# Altium integrated library Micron Memory Parallel NOR Flash.IntLib: 720 symbols (part 46 of 216)
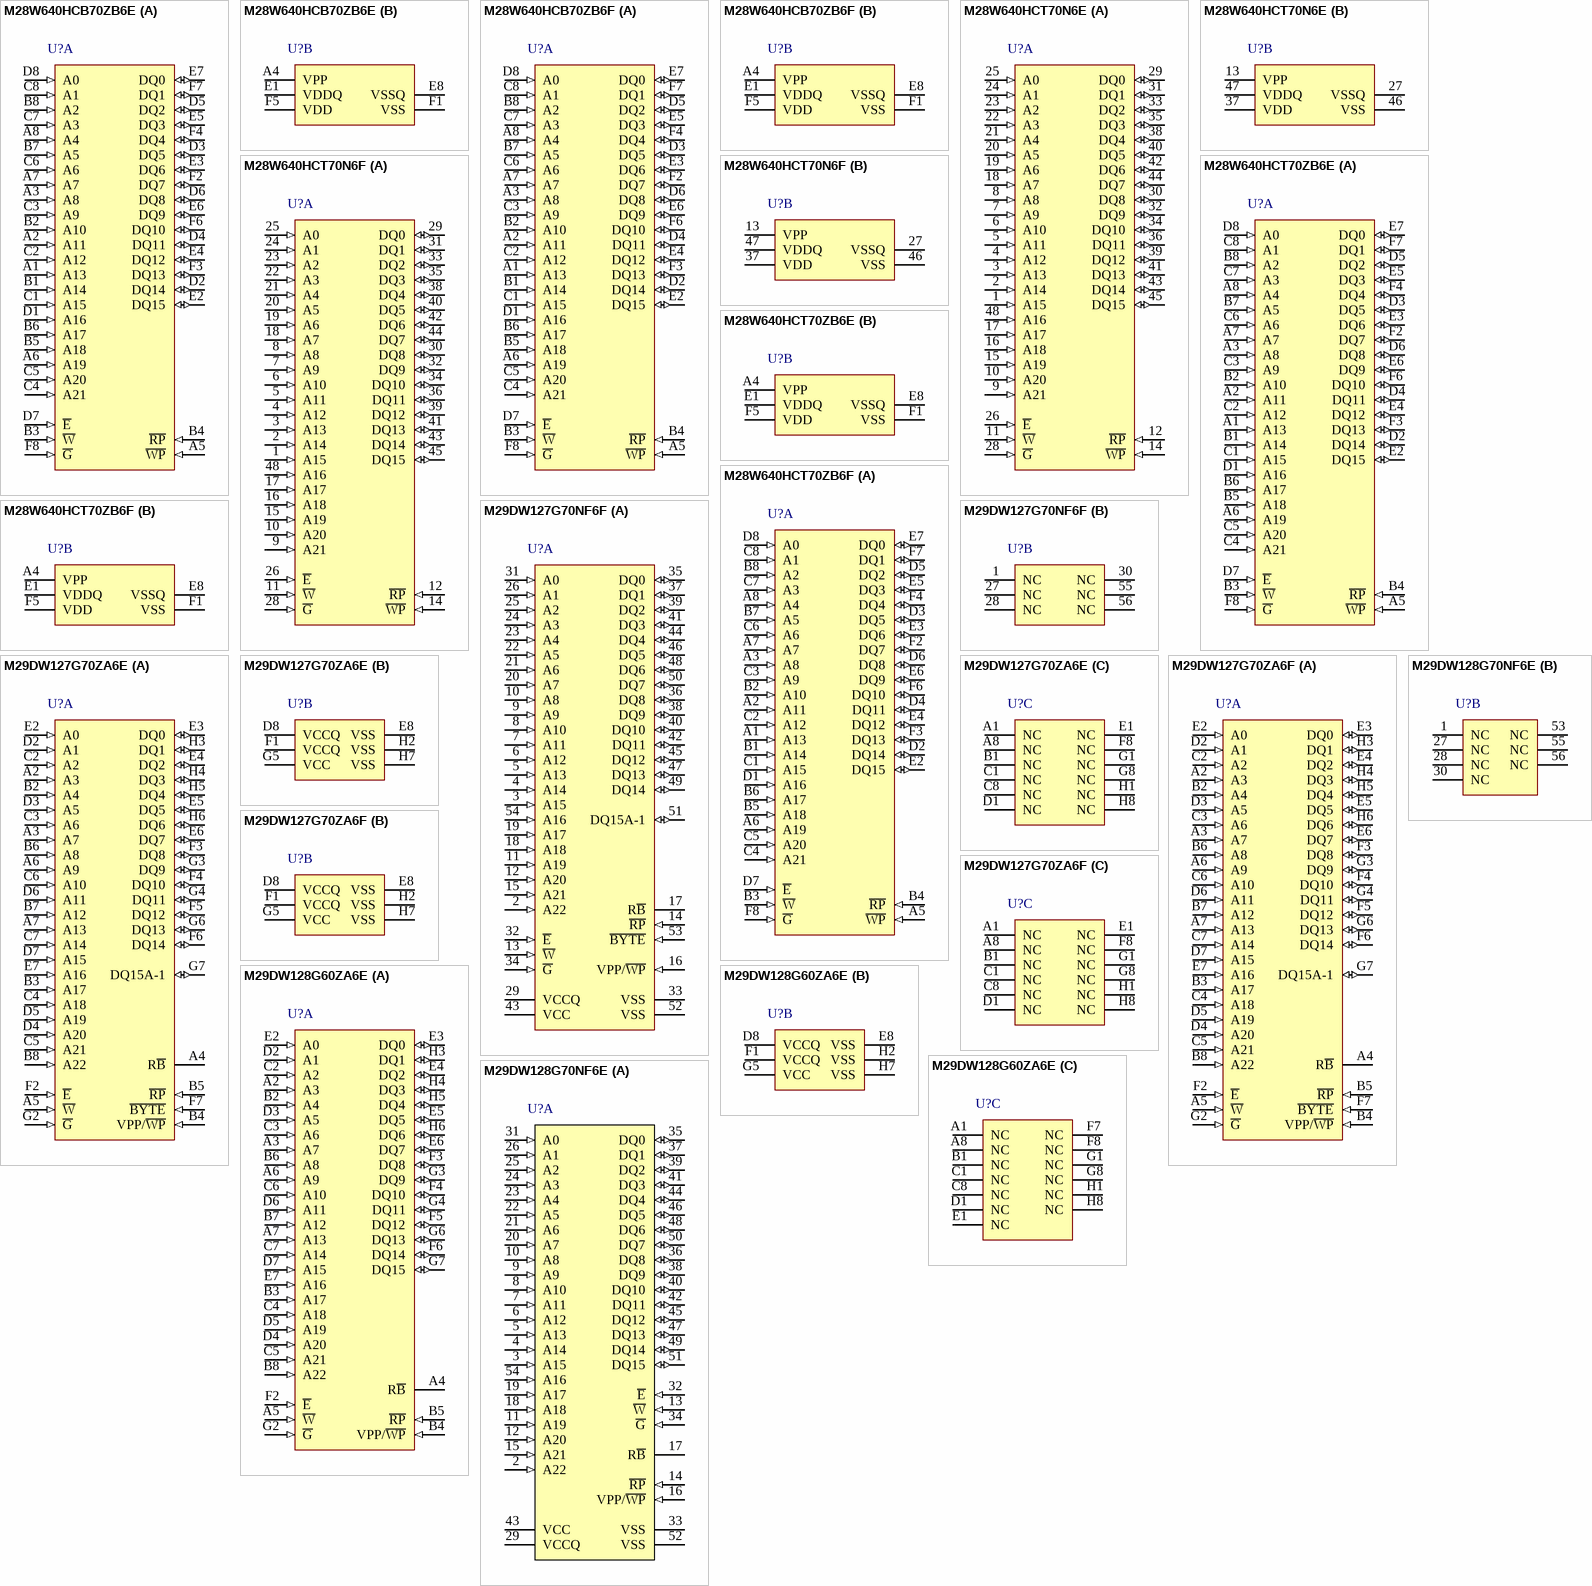
[diagram p100: symbols M28W640HCB70ZB6E to M29DW128G70NF6E]

## M28W640HCT70ZB6E
designator U?
64 Mb (x16) Parallel NOR Flash Memory, 70 ns, 2.7 to 3.6 V, 48-ball TFBGA (ZB), Tray; Part Family: M28W; Manufacturer: Micron; PartNumber: M28W640HCT70ZB6E; Density: 64Mb; Op Temp: -40C to +85C; Speed: 70ns; Voltage: 2.7V-3.6V; DatasheetVersion: Rev. 3; PackageVersion: Rev 4; PackageReference: MICT-ZB-48; PackageDescription: 48-Ball VFBGA, 10.5 X 6.39 mm, Pitch 0.75 mm; RoHS: Yes; Width: x16; Mounting Technology: Surface Mount; ComponentLink1Description: Manufacturer URL; ComponentLink1URL: http://www.micron.com/; ComponentLink2Description: Datasheet; ComponentLink2URL: http://www.micron.com/~/media/Documents/Products/Data%20Sheet/NOR%20Flash/Parallel/M28W/M28W640HC.pdf; ComponentLink3Description: Package Specification; ComponentLink3URL: http://www.micron.com/~/media/Documents/Products/Data%20Sheet/NOR%20Flash/Parallel/M28W/M28W160EC.pdf
footprint MICT-ZB-48 (BGA, 48-Balls, Body 10.5x6.39mm, Pitch 0.75mm)
part A pins: A1 A13 (in) "Address input:The Address Input select the cells in the memory array to access during Bus Read operations. During Bus Write operations they control the commands sent to the Command Interface of the internal state machine.", A2 A11 (in) "Address input:The Address Input select the cells in the memory array to access during Bus Read operations. During Bus Write operations they control the commands sent to the Command Interface of the internal state machine.", A3 A8 (in) "Address input:The Address Input select the cells in the memory array to access during Bus Read operations. During Bus Write operations they control the commands sent to the Command Interface of the internal state machine.", A5 ~{WP} (in) "Write Protect:Write Protect is an input that gives an additional hardware protection for each block. When Write Protect is at VIL, the Lock-Down is enabled and the protection status of the block cannot be changed. When Write (See Datasheet)", A6 A19 (in) "Address input:The Address Input select the cells in the memory array to access during Bus Read operations. During Bus Write operations they control the commands sent to the Command Interface of the internal state machine.", A7 (in) "Address input:The Address Input select the cells in the memory array to access during Bus Read operations. During Bus Write operations they control the commands sent to the Command Interface of the internal state machine.", A8 A4 (in) "Address input:The Address Input select the cells in the memory array to access during Bus Read operations. During Bus Write operations they control the commands sent to the Command Interface of the internal state machine.", B1 A14 (in) "Address input:The Address Input select the cells in the memory array to access during Bus Read operations. During Bus Write operations they control the commands sent to the Command Interface of the internal state machine.", B2 A10 (in) "Address input:The Address Input select the cells in the memory array to access during Bus Read operations. During Bus Write operations they control the commands sent to the Command Interface of the internal state machine.", B3 ~{W} (in) "Write Enable:The Write Enable controls the Bus Write operation of the memory’s Command Interface. The data and address inputs are latched on the rising edge of Chip Enable, E\, or Write Enable, W\, whichever occurs first.", B4 ~{RP} (in) "Reset:The Reset input provides a hardware reset of the memory. When Reset is at VIL, the memory is in reset mode: the outputs are high impedance and the current consumption is minimized. After Reset all blocks are in the (See Datasheet)", B5 A18 (in) "Address input:The Address Input select the cells in the memory array to access during Bus Read operations. During Bus Write operations they control the commands sent to the Command Interface of the internal state machine.", B6 A17 (in) "Address input:The Address Input select the cells in the memory array to access during Bus Read operations. During Bus Write operations they control the commands sent to the Command Interface of the internal state machine.", B7 A5 (in) "Address input:The Address Input select the cells in the memory array to access during Bus Read operations. During Bus Write operations they control the commands sent to the Command Interface of the internal state machine.", B8 A2 (in) "Address input:The Address Input select the cells in the memory array to access during Bus Read operations. During Bus Write operations they control the commands sent to the Command Interface of the internal state machine.", C1 A15 (in) "Address input:The Address Input select the cells in the memory array to access during Bus Read operations. During Bus Write operations they control the commands sent to the Command Interface of the internal state machine.", C2 A12 (in) "Address input:The Address Input select the cells in the memory array to access during Bus Read operations. During Bus Write operations they control the commands sent to the Command Interface of the internal state machine.", C3 A9 (in) "Address input:The Address Input select the cells in the memory array to access during Bus Read operations. During Bus Write operations they control the commands sent to the Command Interface of the internal state machine.", C4 A21 (in) "Address input:The Address Input select the cells in the memory array to access during Bus Read operations. During Bus Write operations they control the commands sent to the Command Interface of the internal state machine.", C5 A20 (in) "Address input:The Address Input select the cells in the memory array to access during Bus Read operations. During Bus Write operations they control the commands sent to the Command Interface of the internal state machine.", C6 A6 (in) "Address input:The Address Input select the cells in the memory array to access during Bus Read operations. During Bus Write operations they control the commands sent to the Command Interface of the internal state machine.", C7 A3 (in) "Address input:The Address Input select the cells in the memory array to access during Bus Read operations. During Bus Write operations they control the commands sent to the Command Interface of the internal state machine.", C8 A1 (in) "Address Input:The Address Input select the cells in the memory array to access during Bus Read operations. During Bus Write operations they control the commands sent to the Command Interface of the internal state machine.", D1 A16 (in) "Address input:The Address Input select the cells in the memory array to access during Bus Read operations. During Bus Write operations they control the commands sent to the Command Interface of the internal state machine.", D2 DQ14 (io) "Data Input/Output:The Data I/O outputs the data stored at the selected address during a Bus Read operation or inputs a command or the data to be programmed during a Write Bus operation.", D3 DQ5 (io) "Data Input/Output:The Data I/O outputs the data stored at the selected address during a Bus Read operation or inputs a command or the data to be programmed during a Write Bus operation.", D4 DQ11 (io) "Data Input/Output:The Data I/O outputs the data stored at the selected address during a Bus Read operation or inputs a command or the data to be programmed during a Write Bus operation.", D5 DQ2 (io) "Data Input/Output:The Data I/O Output the data stored at the selected address during a Bus Read operation or input a command or the data to be programmed during a Write Bus operation.", D6 DQ8 (io) "Data Input/Output:The Data I/O outputs the data stored at the selected address during a Bus Read operation or inputs a command or the data to be programmed during a Write Bus operation.", D7 ~{E} (in) "Chip Enable:The Chip Enable input activates the memory control logic, input buffers, decoders and sense amplifiers. When Chip Enable is at VILand Reset is at VIH the device is in active mode. When Chip Enable is at VIH the (See Datasheet)", D8 A0 (in) "Address input:The Address Input select the cells in the memory array to access during Bus Read operations. During Bus Write operations they control the commands sent to the Command Interface of the internal state machine.", E2 DQ15 (io) "Data Input/Output:The Data I/O outputs the data stored at the selected address during a Bus Read operation or inputs a command or the data to be programmed during a Write Bus operation.", E3 DQ6 (io) "Data Input/Output:The Data I/O outputs the data stored at the selected address during a Bus Read operation or inputs a command or the data to be programmed during a Write Bus operation.", E4 DQ12 (io) "Data Input/Output:The Data I/O outputs the data stored at the selected address during a Bus Read operation or inputs a command or the data to be programmed during a Write Bus operation.", E5 DQ3 (io) "Data Input/Output:The Data I/O outputs the data stored at the selected address during a Bus Read operation or input a command or the data to be programmed during a Write Bus operation.", E6 DQ9 (io) "Data Input/Output:The Data I/O outputs the data stored at the selected address during a Bus Read operation or inputs a command or the data to be programmed during a Write Bus operation.", E7 DQ0 (io) "Data Input/Output:The Data I/O Output the data stored at the selected address during a Bus Read operation or Input a command or the data to be programmed during a Write Bus operation.", F2 DQ7 (io) "Data Input/Output:The Data I/O outputs the data stored at the selected address during a Bus Read operation or inputs a command or the data to be programmed during a Write Bus operation.", F3 DQ13 (io) "Data Input/Output:The Data I/O outputs the data stored at the selected address during a Bus Read operation or inputs a command or the data to be programmed during a Write Bus operation.", F4 DQ4 (io) "Data Input/OUTPUT:The Data I/O OUTPUT the data stored at the selected address during a Bus Read operation or INPUT a command or the data to be programmed during a Write Bus operation.", F6 DQ10 (io) "Data Input/Output:The Data I/O outputs the data stored at the selected address during a Bus Read operation or inputs a command or the data to be programmed during a Write Bus operation.", F7 DQ1 (io) "Data Input/Output:The Data I/O Output the data stored at the selected address during a Bus Read operation or inputs a command or the data to be programmed during a Write Bus operation.", F8 ~{G} (in) "Output Enable:The Output Enable controls data outputs during the Bus Read operation of the memory."
part B pins: A4 VPP (power) "VPP Program supply voltage:VPP is both a control input and a power supply pin. The two functions are selected by the voltage range applied to the pin. The Supply Voltage VDD and the Program Supply Voltage VPP can be applied (See Datasheet)", E1 VDDQ (power) "VDDQ supply voltage:VDDQ provides the power supply to the I/O pins and enables all Outputs to be powered independently from VDD. VDDQ can be tied to VDD or can use a separate supply.", E8 VSSQ (power), F1 VSS (power) "VSS Ground:VSS is the reference for all voltage measurements.", F5 VDD (power) "VDD Supply Voltage:VDD provides the power supply to the internal core of the memory device. It is the main power supply for all operations (Read, Program and Erase)."

## M28W640HCT70ZB6F
designator U?
64 Mb (x16) Parallel NOR Flash Memory, 70 ns, 2.7 to 3.6 V, 48-ball TFBGA (ZB), Tape & Reel; Part Family: M28W; Manufacturer: Micron; PartNumber: M28W640HCT70ZB6F; Density: 64Mb; Op Temp: -40C to +85C; Speed: 70ns; Voltage: 2.7V-3.6V; DatasheetVersion: Rev. 3; PackageVersion: Rev 4; PackageReference: MICT-ZB-48; PackageDescription: 48-Ball VFBGA, 10.5 X 6.39 mm, Pitch 0.75 mm; RoHS: Yes; Width: x16; Mounting Technology: Surface Mount; ComponentLink1Description: Manufacturer URL; ComponentLink1URL: http://www.micron.com/; ComponentLink2Description: Datasheet; ComponentLink2URL: http://www.micron.com/~/media/Documents/Products/Data%20Sheet/NOR%20Flash/Parallel/M28W/M28W640HC.pdf; ComponentLink3Description: Package Specification; ComponentLink3URL: http://www.micron.com/~/media/Documents/Products/Data%20Sheet/NOR%20Flash/Parallel/M28W/M28W160EC.pdf
footprint MICT-ZB-48 (BGA, 48-Balls, Body 10.5x6.39mm, Pitch 0.75mm)
part A pins: A1 A13 (in) "Address input:The Address Input select the cells in the memory array to access during Bus Read operations. During Bus Write operations they control the commands sent to the Command Interface of the internal state machine.", A2 A11 (in) "Address input:The Address Input select the cells in the memory array to access during Bus Read operations. During Bus Write operations they control the commands sent to the Command Interface of the internal state machine.", A3 A8 (in) "Address input:The Address Input select the cells in the memory array to access during Bus Read operations. During Bus Write operations they control the commands sent to the Command Interface of the internal state machine.", A5 ~{WP} (in) "Write Protect:Write Protect is an input that gives an additional hardware protection for each block. When Write Protect is at VIL, the Lock-Down is enabled and the protection status of the block cannot be changed. When Write (See Datasheet)", A6 A19 (in) "Address input:The Address Input select the cells in the memory array to access during Bus Read operations. During Bus Write operations they control the commands sent to the Command Interface of the internal state machine.", A7 (in) "Address input:The Address Input select the cells in the memory array to access during Bus Read operations. During Bus Write operations they control the commands sent to the Command Interface of the internal state machine.", A8 A4 (in) "Address input:The Address Input select the cells in the memory array to access during Bus Read operations. During Bus Write operations they control the commands sent to the Command Interface of the internal state machine.", B1 A14 (in) "Address input:The Address Input select the cells in the memory array to access during Bus Read operations. During Bus Write operations they control the commands sent to the Command Interface of the internal state machine.", B2 A10 (in) "Address input:The Address Input select the cells in the memory array to access during Bus Read operations. During Bus Write operations they control the commands sent to the Command Interface of the internal state machine.", B3 ~{W} (in) "Write Enable:The Write Enable controls the Bus Write operation of the memory’s Command Interface. The data and address inputs are latched on the rising edge of Chip Enable, E\, or Write Enable, W\, whichever occurs first.", B4 ~{RP} (in) "Reset:The Reset input provides a hardware reset of the memory. When Reset is at VIL, the memory is in reset mode: the outputs are high impedance and the current consumption is minimized. After Reset all blocks are in the (See Datasheet)", B5 A18 (in) "Address input:The Address Input select the cells in the memory array to access during Bus Read operations. During Bus Write operations they control the commands sent to the Command Interface of the internal state machine.", B6 A17 (in) "Address input:The Address Input select the cells in the memory array to access during Bus Read operations. During Bus Write operations they control the commands sent to the Command Interface of the internal state machine.", B7 A5 (in) "Address input:The Address Input select the cells in the memory array to access during Bus Read operations. During Bus Write operations they control the commands sent to the Command Interface of the internal state machine.", B8 A2 (in) "Address input:The Address Input select the cells in the memory array to access during Bus Read operations. During Bus Write operations they control the commands sent to the Command Interface of the internal state machine.", C1 A15 (in) "Address input:The Address Input select the cells in the memory array to access during Bus Read operations. During Bus Write operations they control the commands sent to the Command Interface of the internal state machine.", C2 A12 (in) "Address input:The Address Input select the cells in the memory array to access during Bus Read operations. During Bus Write operations they control the commands sent to the Command Interface of the internal state machine.", C3 A9 (in) "Address input:The Address Input select the cells in the memory array to access during Bus Read operations. During Bus Write operations they control the commands sent to the Command Interface of the internal state machine.", C4 A21 (in) "Address input:The Address Input select the cells in the memory array to access during Bus Read operations. During Bus Write operations they control the commands sent to the Command Interface of the internal state machine.", C5 A20 (in) "Address input:The Address Input select the cells in the memory array to access during Bus Read operations. During Bus Write operations they control the commands sent to the Command Interface of the internal state machine.", C6 A6 (in) "Address input:The Address Input select the cells in the memory array to access during Bus Read operations. During Bus Write operations they control the commands sent to the Command Interface of the internal state machine.", C7 A3 (in) "Address input:The Address Input select the cells in the memory array to access during Bus Read operations. During Bus Write operations they control the commands sent to the Command Interface of the internal state machine.", C8 A1 (in) "Address Input:The Address Input select the cells in the memory array to access during Bus Read operations. During Bus Write operations they control the commands sent to the Command Interface of the internal state machine.", D1 A16 (in) "Address input:The Address Input select the cells in the memory array to access during Bus Read operations. During Bus Write operations they control the commands sent to the Command Interface of the internal state machine.", D2 DQ14 (io) "Data Input/Output:The Data I/O outputs the data stored at the selected address during a Bus Read operation or inputs a command or the data to be programmed during a Write Bus operation.", D3 DQ5 (io) "Data Input/Output:The Data I/O outputs the data stored at the selected address during a Bus Read operation or inputs a command or the data to be programmed during a Write Bus operation.", D4 DQ11 (io) "Data Input/Output:The Data I/O outputs the data stored at the selected address during a Bus Read operation or inputs a command or the data to be programmed during a Write Bus operation.", D5 DQ2 (io) "Data Input/Output:The Data I/O Output the data stored at the selected address during a Bus Read operation or input a command or the data to be programmed during a Write Bus operation.", D6 DQ8 (io) "Data Input/Output:The Data I/O outputs the data stored at the selected address during a Bus Read operation or inputs a command or the data to be programmed during a Write Bus operation.", D7 ~{E} (in) "Chip Enable:The Chip Enable input activates the memory control logic, input buffers, decoders and sense amplifiers. When Chip Enable is at VILand Reset is at VIH the device is in active mode. When Chip Enable is at VIH the (See Datasheet)", D8 A0 (in) "Address input:The Address Input select the cells in the memory array to access during Bus Read operations. During Bus Write operations they control the commands sent to the Command Interface of the internal state machine.", E2 DQ15 (io) "Data Input/Output:The Data I/O outputs the data stored at the selected address during a Bus Read operation or inputs a command or the data to be programmed during a Write Bus operation.", E3 DQ6 (io) "Data Input/Output:The Data I/O outputs the data stored at the selected address during a Bus Read operation or inputs a command or the data to be programmed during a Write Bus operation.", E4 DQ12 (io) "Data Input/Output:The Data I/O outputs the data stored at the selected address during a Bus Read operation or inputs a command or the data to be programmed during a Write Bus operation.", E5 DQ3 (io) "Data Input/Output:The Data I/O outputs the data stored at the selected address during a Bus Read operation or input a command or the data to be programmed during a Write Bus operation.", E6 DQ9 (io) "Data Input/Output:The Data I/O outputs the data stored at the selected address during a Bus Read operation or inputs a command or the data to be programmed during a Write Bus operation.", E7 DQ0 (io) "Data Input/Output:The Data I/O Output the data stored at the selected address during a Bus Read operation or Input a command or the data to be programmed during a Write Bus operation.", F2 DQ7 (io) "Data Input/Output:The Data I/O outputs the data stored at the selected address during a Bus Read operation or inputs a command or the data to be programmed during a Write Bus operation.", F3 DQ13 (io) "Data Input/Output:The Data I/O outputs the data stored at the selected address during a Bus Read operation or inputs a command or the data to be programmed during a Write Bus operation.", F4 DQ4 (io) "Data Input/OUTPUT:The Data I/O OUTPUT the data stored at the selected address during a Bus Read operation or INPUT a command or the data to be programmed during a Write Bus operation.", F6 DQ10 (io) "Data Input/Output:The Data I/O outputs the data stored at the selected address during a Bus Read operation or inputs a command or the data to be programmed during a Write Bus operation.", F7 DQ1 (io) "Data Input/Output:The Data I/O Output the data stored at the selected address during a Bus Read operation or inputs a command or the data to be programmed during a Write Bus operation.", F8 ~{G} (in) "Output Enable:The Output Enable controls data outputs during the Bus Read operation of the memory."
part B pins: A4 VPP (power) "VPP Program supply voltage:VPP is both a control input and a power supply pin. The two functions are selected by the voltage range applied to the pin. The Supply Voltage VDD and the Program Supply Voltage VPP can be applied (See Datasheet)", E1 VDDQ (power) "VDDQ supply voltage:VDDQ provides the power supply to the I/O pins and enables all Outputs to be powered independently from VDD. VDDQ can be tied to VDD or can use a separate supply.", E8 VSSQ (power), F1 VSS (power) "VSS Ground:VSS is the reference for all voltage measurements.", F5 VDD (power) "VDD Supply Voltage:VDD provides the power supply to the internal core of the memory device. It is the main power supply for all operations (Read, Program and Erase)."

## M29DW127G70NF6F
designator U?
128 Mb (x8/x16) Parallel NOR Flash Memory, 70 ns, 2.7 to 3.6 V, 56-pin TSOP (NF), Tape & Reel; Part Family: M29DW; Manufacturer: Micron; PartNumber: M29DW127G70NF6F; Density: 128Mb; Op Temp: -40C to +85C; Speed: 70ns; Voltage: 2.7V-3.6V; DatasheetVersion: Rev. 3; PackageVersion: Rev. 3; PackageReference: MICT-NF-56; PackageDescription: 56-Pin TSOP, 18.4 X 14 mm, Pitch 0.5 mm; RoHS: Yes; Width: x8/x16; Mounting Technology: Surface Mount; ComponentLink1Description: Manufacturer URL; ComponentLink1URL: http://www.micron.com/; ComponentLink2Description: Datasheet; ComponentLink2URL: http://www.micron.com/~/media/Documents/Products/Data%20Sheet/NOR%20Flash/Parallel/M29DW/M29DW127G.pdf; ComponentLink3Description: Package Specification; ComponentLink3URL: http://www.micron.com/~/media/Documents/Products/Data%20Sheet/NOR%20Flash/Parallel/M29DW/M29DW127G.pdf
footprint MICT-NF-56_N (SOP, 56-Leads, Body 18.5x14.1mm, Pitch 0.5mm, IPC Medium Density)
part A pins: 2 A22 (in) "Address input: The address input select the cells in the memory array to access during bus read operations. During bus write operations they control the commands sent to the command interface of the program/erase controller.", 3 A15 (in) "Address input: The address input select the cells in the memory array to access during bus read operations. During bus write operations they control the commands sent to the command interface of the program/erase controller.", 4 A14 (in) "Address input: The address input select the cells in the memory array to access during bus read operations. During bus write operations they control the commands sent to the command interface of the program/erase controller.", 5 A13 (in) "Address input: The address input select the cells in the memory array to access during bus read operations. During bus write operations they control the commands sent to the command interface of the program/erase controller.", 6 A12 (in) "Address input: The address input select the cells in the memory array to access during bus read operations. During bus write operations they control the commands sent to the command interface of the program/erase controller.", 7 A11 (in) "Address input: The address input select the cells in the memory array to access during bus read operations. During bus write operations they control the commands sent to the command interface of the program/erase controller.", 8 A10 (in) "Address input: The address input select the cells in the memory array to access during bus read operations. During bus write operations they control the commands sent to the command interface of the program/erase controller.", 9 A9 (in) "Address input: The address input select the cells in the memory array to access during bus read operations. During bus write operations they control the commands sent to the command interface of the program/erase controller.", 10 A8 (in) "Address input: The address input select the cells in the memory array to access during bus read operations. During bus write operations they control the commands sent to the command interface of the program/erase controller.", 11 A19 (in) "Address input: The address input select the cells in the memory array to access during bus read operations. During bus write operations they control the commands sent to the command interface of the program/erase controller.", 12 A20 (in) "Address input: The address input select the cells in the memory array to access during bus read operations. During bus write operations they control the commands sent to the command interface of the program/erase controller.", 13 ~{W} (in) "Write Enable: The Write Enable pin, W, controls the bus write operation of the memory’s command interface.", 14 ~{RP} (in) "Reset: The reset pin can be used to apply a hardware reset to the memory.", 15 A21 (in) "Address input: The address input select the cells in the memory array to access during bus read operations. During bus write operations they control the commands sent to the command interface of the program/erase controller.", 16 VPP/~{WP} (in) "VPP/write protect: The VPP/write protect pin provides two functions. The VPPH function allows the memory to use an external high voltage power supply to reduce the time required for program operations. This is achieved by (See Datasheet)", 17 R~{B} (hiz) "Ready/busy output: The ready/busy pin is an open-drain output that can be used to identify when the device is performing a program or erase operation. During program or erase operations ready/busy is Low, VOL (see Table 21: (See Datasheet)", 18 A18 (in) "Address input: The address input select the cells in the memory array to access during bus read operations. During bus write operations they control the commands sent to the command interface of the program/erase controller.", 19 A17 (in) "Address input: The address input select the cells in the memory array to access during bus read operations. During bus write operations they control the commands sent to the command interface of the program/erase controller.", 20 A7 (in) "Address input: The address input select the cells in the memory array to access during bus read operations. During bus write operations they control the commands sent to the command interface of the program/erase controller.", 21 A6 (in) "Address input: The address input select the cells in the memory array to access during bus read operations. During bus write operations they control the commands sent to the command interface of the program/erase controller.", 22 A5 (in) "Address input: The address input select the cells in the memory array to access during bus read operations. During bus write operations they control the commands sent to the command interface of the program/erase controller.", 23 A4 (in) "Address input: The address input select the cells in the memory array to access during bus read operations. During bus write operations they control the commands sent to the command interface of the program/erase controller.", 24 A3 (in) "Address input: The address input select the cells in the memory array to access during bus read operations. During bus write operations they control the commands sent to the command interface of the program/erase controller.", 25 A2 (in) "Address input: The address input select the cells in the memory array to access during bus read operations. During bus write operations they control the commands sent to the command interface of the program/erase controller.", 26 A1 (in) "Address input: The address input select the cells in the memory array to access during bus read operations. During bus write operations they control the commands sent to the command interface of the program/erase controller.", 29 VCCQ (power) "VCCQ input/output supply voltage: VCCQ provides the power supply to the I/O pins and enables all outputs to be powered independently from VCC.", 31 A0 (in) "Address input: The address input select the cells in the memory array to access during bus read operations. During bus write operations they control the commands sent to the command interface of the program/erase controller.", 32 ~{E} (in) "Chip Enable: The Chip Enable pin, E\, activates the memory, allowing bus read and bus write operations to be performed. When chip enable is High, VIH, all other pins are ignored.", 33 VSS (power) "Vss ground: VSS is the reference for all voltage measurements. The device features two VSS pins both of which must be connected to the system ground.", 34 ~{G} (in) "Output Enable: The Output Enable pin, G\, controls the bus read operation of the memory.", 35 DQ0 (io) "Data input/output: The data I/O output the data stored at the selected address during a bus read operation. During bus write operations they represent the commands sent to the command interface of the internal state machine.", 36 DQ8 (io) "Data input/output: The data I/O outputs the data stored at the selected address during a bus read operation when B\Y\T\E\ is High, VIH. When B\Y\T\E\ is Low, VIL, these pins are not used and are high impedance. During bus (See Datasheet)", 37 DQ1 (io) "Data input/output: The data I/O output the data stored at the selected address during a bus read operation. During bus write operations they represent the commands sent to the command interface of the internal state machine.", 38 DQ9 (io) "Data input/output: The data I/O outputs the data stored at the selected address during a bus read operation when B\Y\T\E\ is High, VIH. When B\Y\T\E\ is Low, VIL, these pins are not used and are high impedance. During bus (See Datasheet)", 39 DQ2 (io) "Data input/output: The data I/O output the data stored at the selected address during a bus read operation. During bus write operations they represent the commands sent to the command interface of the internal state machine.", 40 DQ10 (io) "Data input/output: The data I/O outputs the data stored at the selected address during a bus read operation when B\Y\T\E\ is High, VIH. When B\Y\T\E\ is Low, VIL, these pins are not used and are high impedance. During bus (See Datasheet)", 41 DQ3 (io) "Data input/output: The data I/O output the data stored at the selected address during a bus read operation. During bus write operations they represent the commands sent to the command interface of the internal state machine.", 42 DQ11 (io) "Data input/output: The data I/O outputs the data stored at the selected address during a bus read operation when B\Y\T\E\ is High, VIH. When B\Y\T\E\ is Low, VIL, these pins are not used and are high impedance. During bus (See Datasheet)", 43 VCC (power) "VCC supply voltage: VCC provides the power supply for all operations (read, program and erase).", 44 DQ4 (io) "Data input/output: The data I/O output the data stored at the selected address during a bus read operation. During bus write operations they represent the commands sent to the command interface of the internal state machine.", 45 DQ12 (io) "Data input/output: The data I/O outputs the data stored at the selected address during a bus read operation when B\Y\T\E\ is High, VIH. When B\Y\T\E\ is Low, VIL, these pins are not used and are high impedance. During bus (See Datasheet)", 46 DQ5 (io) "Data input/output: The data I/O output the data stored at the selected address during a bus read operation. During bus write operations they represent the commands sent to the command interface of the internal state machine.", 47 DQ13 (io) "Data input/output: The data I/O outputs the data stored at the selected address during a bus read operation when B\Y\T\E\ is High, VIH. When B\Y\T\E\ is Low, VIL, these pins are not used and are high impedance. During bus (See Datasheet)", 48 DQ6 (io) "Data input/output: The data I/O output the data stored at the selected address during a bus read operation. During bus write operations they represent the commands sent to the command interface of the internal state machine.", 49 DQ14 (io) "Data input/output: The data I/O outputs the data stored at the selected address during a bus read operation when B\Y\T\E\ is High, VIH. When B\Y\T\E\ is Low, VIL, these pins are not used and are high impedance. During bus (See Datasheet)", 50 DQ7 (io) "Data input/output: The data I/O output the data stored at the selected address during a bus read operation. During bus write operations they represent the commands sent to the command interface of the internal state machine.", 51 DQ15A-1 (io) "Data input/output or address input: When the device is in x 16 bus mode, this pin behaves as a data input/output pin (as DQ8- DQ14). When the device operates in x 8 bus mode, this pin behaves as the least significant bit of (See Datasheet)", 52 VSS (power) "Vss ground: VSS is the reference for all voltage measurements. The device features two VSS pins both of which must be connected to the system ground.", 53 ~{BYTE} (in) "Byte/word organization select: It is used to switch between the x8 and x16 bus modes of the memory. When byte/word organization select is Low, VIL, the memory is in x8 mode, when it is High, VIH, the memory is in x16 mode.", 54 A16 (in) "Address input: The address input select the cells in the memory array to access during bus read operations. During bus write operations they control the commands sent to the command interface of the program/erase controller."
part B pins: 1 NC "Not connected", 27 NC "Not connected", 28 NC "Not connected", 30 NC "Not connected", 55 NC "Not connected", 56 NC "Not connected"

## M29DW127G70ZA6E
designator U?
128 Mb (x8/x16) Parallel NOR Flash Memory, 70 ns, 2.7 to 3.6 V, 64-ball TBGA (ZA), Tray; Part Family: M29DW; Manufacturer: Micron; PartNumber: M29DW127G70ZA6E; Density: 128Mb; Op Temp: -40C to +85C; Speed: 70ns; Voltage: 2.7V-3.6V; DatasheetVersion: Rev. 3; PackageVersion: Rev 3; PackageReference: MICT-ZA-64; PackageDescription: 64-Ball TBGA, 13 X 10 mm, Pitch 1 mm; RoHS: Yes; Width: x8/x16; Mounting Technology: Surface Mount; ComponentLink1Description: Manufacturer URL; ComponentLink1URL: http://www.micron.com/; ComponentLink2Description: Datasheet; ComponentLink2URL: http://www.micron.com/~/media/Documents/Products/Data%20Sheet/NOR%20Flash/Parallel/M29DW/M29DW127G.pdf; ComponentLink3Description: Package Specification; ComponentLink3URL: http://www.micron.com/~/media/Documents/Products/Data%20Sheet/NOR%20Flash/Parallel/M29DW/M29DW127G.pdf
footprint MICT-ZA-64 (BGA, 64-Balls, Body 13x10mm, Pitch 1mm)
part A pins: A2 A3 (in) "The address input select the cells in the memory array to access during bus read operations. During bus write operations they control the commands sent to the command interface of the program/erase controller.", A3 A7 (in) "The address input select the cells in the memory array to access during bus read operations. During bus write operations they control the commands sent to the command interface of the program/erase controller.", A4 R~{B} (hiz) "The ready/busy pin is an open-drain output that can be used to identify when the device is performing a program or erase operation. During program or erase operations ready/busy is Low, VOL (see Table 21: Status register (See Datasheet)", A5 ~{W} (in) "The Write Enable pin, W, controls the bus write operation of the memory’s command interface.", A6 A9 (in) "The address input select the cells in the memory array to access during bus read operations. During bus write operations they control the commands sent to the command interface of the program/erase controller.", A7 A13 (in) "The address input select the cells in the memory array to access during bus read operations. During bus write operations they control the commands sent to the command interface of the program/erase controller.", B2 A4 (in) "The address input select the cells in the memory array to access during bus read operations. During bus write operations they control the commands sent to the command interface of the program/erase controller.", B3 A17 (in) "The address input select the cells in the memory array to access during bus read operations. During bus write operations they control the commands sent to the command interface of the program/erase controller.", B4 VPP/~{WP} (in) "The VPP/write protect pin provides two functions. The VPPH function allows the memory to use an external high voltage power supply to reduce the time required for program operations. This is achieved by bypassing the unlock (See Datasheet)", B5 ~{RP} (in) "The reset pin can be used to apply a hardware reset to the memory.A hardware reset is achieved by holding reset Low, VIL, for at least tPLPX. After reset goes High, VIH, the memory will be ready for bus read and bus write (See Datasheet)", B6 A8 (in) "The address input select the cells in the memory array to access during bus read operations. During bus write operations they control the commands sent to the command interface of the program/erase controller.", B7 A12 (in) "The address input select the cells in the memory array to access during bus read operations. During bus write operations they control the commands sent to the command interface of the program/erase controller.", B8 A22 (in) "The address input select the cells in the memory array to access during bus read operations. During bus write operations they control the commands sent to the command interface of the program/erase controller.", C2 A2 (in) "The address input select the cells in the memory array to access during bus read operations. During bus write operations they control the commands sent to the command interface of the program/erase controller.", C3 A6 (in) "The address input select the cells in the memory array to access during bus read operations. During bus write operations they control the commands sent to the command interface of the program/erase controller.", C4 A18 (in) "The address input select the cells in the memory array to access during bus read operations. During bus write operations they control the commands sent to the command interface of the program/erase controller.", C5 A21 (in) "The address input select the cells in the memory array to access during bus read operations. During bus write operations they control the commands sent to the command interface of the program/erase controller.", C6 A10 (in) "The address input select the cells in the memory array to access during bus read operations. During bus write operations they control the commands sent to the command interface of the program/erase controller.", C7 A14 (in) "The address input select the cells in the memory array to access during bus read operations. During bus write operations they control the commands sent to the command interface of the program/erase controller.", D2 A1 (in) "The Address Input select the cells in the memory array to access during bus read operations. During bus write operations they control the commands sent to the command interface of the program/erase controller.", D3 A5 (in) "The address input select the cells in the memory array to access during bus read operations. During bus write operations they control the commands sent to the command interface of the program/erase controller.", D4 A20 (in) "The address input select the cells in the memory array to access during bus read operations. During bus write operations they control the commands sent to the command interface of the program/erase controller.", D5 A19 (in) "The address input select the cells in the memory array to access during bus read operations. During bus write operations they control the commands sent to the command interface of the program/erase controller.", D6 A11 (in) "The address input select the cells in the memory array to access during bus read operations. During bus write operations they control the commands sent to the command interface of the program/erase controller.", D7 A15 (in) "The address input select the cells in the memory array to access during bus read operations. During bus write operations they control the commands sent to the command interface of the program/erase controller.", E2 A0 (in) "The address input select the cells in the memory array to access during bus read operations. During bus write operations they control the commands sent to the command interface of the program/erase controller.", E3 DQ0 (io) "The data I/O output the data stored at the selected address during a bus read operation.During bus write operations they represent the commands sent to the command interface of the internal state machine.", E4 DQ2 (io) "The data I/O output the data stored at the selected address during a bus read operation.During bus write operations they represent the commands sent to the command interface of the internal state machine.", E5 DQ5 (io) "The data I/O output the data stored at the selected address during a bus read operation.During bus write operations they represent the commands sent to the command interface of the internal state machine.", E6 DQ7 (io) "The data I/O output the data stored at the selected address during a bus read operation.During bus write operations they represent the commands sent to the command interface of the internal state machine.", E7 A16 (in) "The address input select the cells in the memory array to access during bus read operations. During bus write operations they control the commands sent to the command interface of the program/erase controller.", F2 ~{E} (in) "The Chip Enable pin, E\, activates the memory, allowing bus read and bus write operations to be performed. When chip enable is High, VIH, all other pins are ignored.", F3 DQ8 (io) "The data I/O output the data stored at the selected address during a bus read operation when B\Y\T\E\ is High, VIH. When B\Y\T\E\ is Low, VIL, these pins are not used and are high impedance. During bus write operations the (See Datasheet)", F4 DQ10 (io) "The data I/O output the data stored at the selected address during a bus read operation when B\Y\T\E\ is High, VIH. When B\Y\T\E\ is Low, VIL, these pins are not used and are high impedance. During bus write operations the (See Datasheet)", F5 DQ12 (io) "The data I/O output the data stored at the selected address during a bus read operation when B\Y\T\E\ is High, VIH. When B\Y\T\E\ is Low, VIL, these pins are not used and are high impedance. During bus write operations the (See Datasheet)", F6 DQ14 (io) "The data I/O output the data stored at the selected address during a bus read operation when B\Y\T\E\ is High, VIH. When B\Y\T\E\ is Low, VIL, these pins are not used and are high impedance. During bus write operations the (See Datasheet)", F7 ~{BYTE} (in) "It is used to switch between the x8 and x16 bus modes of the memory. When byte/word organization select is Low, VIL, the memory is in x8 mode, when it is High, VIH, the memory is in x16 mode.", G2 ~{G} (in) "The Output Enable pin, G\, controls the bus read operation of the memory.", G3 DQ9 (io) "The data I/O output the data stored at the selected address during a bus read operation when B\Y\T\E\ is High, VIH. When B\Y\T\E\ is Low, VIL, these pins are not used and are high impedance. During bus write operations the (See Datasheet)", G4 DQ11 (io) "The data I/O output the data stored at the selected address during a bus read operation when B\Y\T\E\ is High, VIH. When B\Y\T\E\ is Low, VIL, these pins are not used and are high impedance. During bus write operations the (See Datasheet)", G6 DQ13 (io) "The data I/O output the data stored at the selected address during a bus read operation when B\Y\T\E\ is High, VIH. When B\Y\T\E\ is Low, VIL, these pins are not used and are high impedance. During bus write operations the (See Datasheet)", G7 DQ15A-1 (io) "When the device is in x 16 bus mode, this pin behaves as a data input/output pin (as DQ8-DQ14). When the device operates in x 8 bus mode, this pin behaves as the least significant bit of the address. Throughout the text (See Datasheet)", H3 DQ1 (io) "The data I/O output the data stored at the selected address during a bus read operation.During bus write operations they represent the commands sent to the command interface of the internal state machine.", H4 DQ3 (io) "The data I/O output the data stored at the selected address during a bus read operation.During bus write operations they represent the commands sent to the command interface of the internal state machine.", H5 DQ4 (io) "The data I/O OUTPUT the data stored at the selected address during a bus read operation.During bus write operations they represent the commands sent to the command interface of the internal state machine.", H6 DQ6 (io) "The data I/O output the data stored at the selected address during a bus read operation.During bus write operations they represent the commands sent to the command interface of the internal state machine."
part B pins: D8 VCCQ (power) "VCCQ provides the power supply to the I/O pins and enables all outputs to be powered independently from VCC.", E8 VSS (power) "VSS is the reference for all voltage measurements. The device features two VSS pins both of which must be connected to the system ground.", F1 VCCQ (power) "VCCQ provides the power supply to the I/O pins and enables all outputs to be powered independently from VCC.", G5 VCC (power) "VCC provides the power supply for all operations (read, program and erase). The command interface is disabled when the VCC supply voltage is less than the lockout voltage, VLKO. This prevents bus write operations from (See Datasheet)", H2 VSS (power) "VSS is the reference for all voltage measurements. The device features two VSS pins both of which must be connected to the system ground.", H7 VSS (power) "VSS is the reference for all voltage measurements. The device features two VSS pins both of which must be connected to the system ground."
part C pins: A1 NC "Not connected", A8 NC "Not connected", B1 NC "Not connected", C1 NC "Not connected", C8 NC "Not connected", D1 NC "Not connected", E1 NC "Not connected", F8 NC "Not connected", G1 NC "Not connected", G8 NC "during power-up, power-down and power surges. If the program/erase controller is", H1 NC "programming or erasing during this time then the operation aborts and the memory contents", H8 NC "Not connected"